# Altium schematic symbol library RelayBoard.SCHLIB: 30 symbols
Pins are listed as number, name and electrical type; pins without a type are passive.

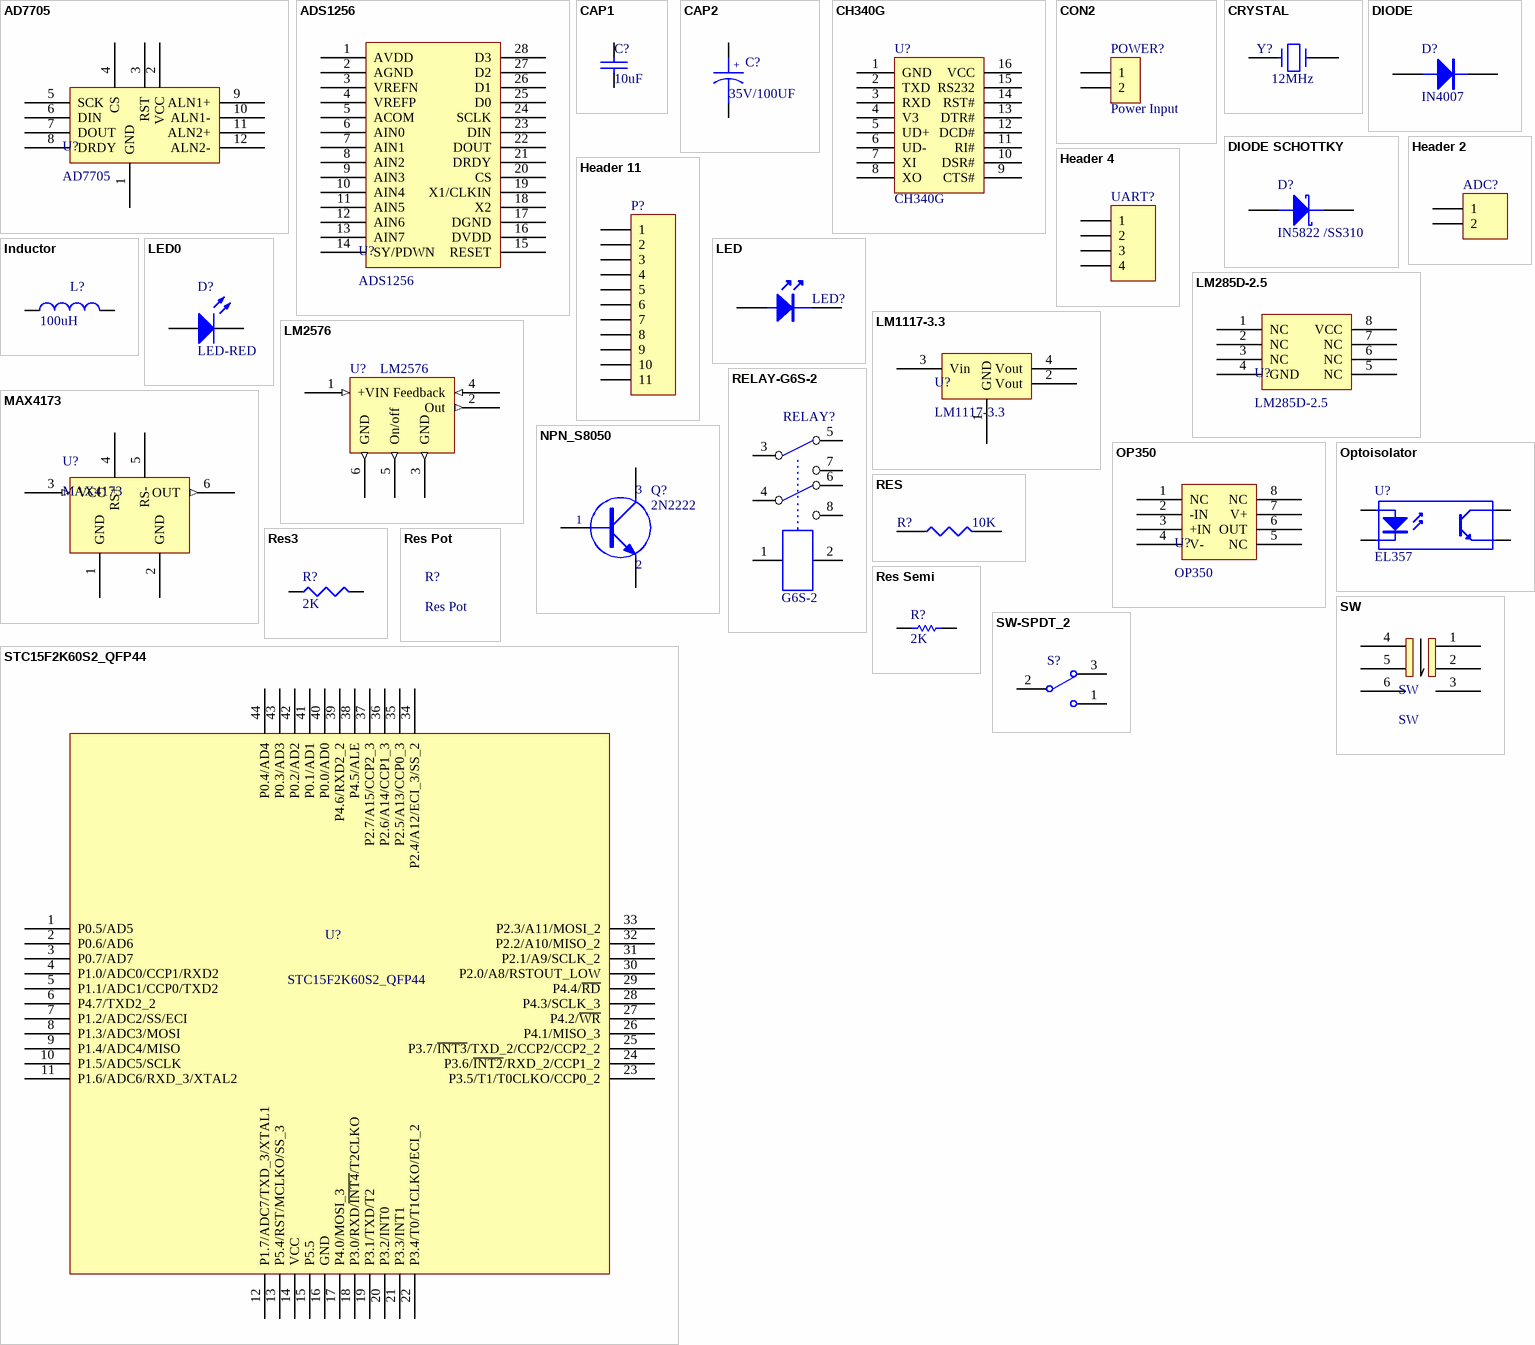
[diagram p0: symbols AD7705 to SW-SPDT_2]

## AD7705
designator U?
pins: 1 GND, 2 VCC, 3 RST, 4 CS, 5 SCK, 6 DIN, 7 DOUT, 8 DRDY, 9 ALN1+, 10 ALN1-, 11 ALN2+, 12 ALN2-

## ADS1256
designator U?
footprint ADS1256 (SSOP-28)
pins: 1 AVDD, 2 AGND, 3 VREFN, 4 VREFP, 5 ACOM, 6 AIN0, 7 AIN1, 8 AIN2, 9 AIN3, 10 AIN4, 11 AIN5, 12 AIN6, 13 AIN7, 14 SY/PDWN, 15 RESET, 16 DVDD, 17 DGND, 18 X2, 19 X1/CLKIN, 20 CS, 21 DRDY, 22 DOUT, 23 DIN, 24 SCLK, 25 D0, 26 D1, 27 D2, 28 D3

## CAP1
designator C?, comment 10uF
footprint C-0805 (SMT)
footprint R0805
footprint 0603
footprint RAD0.2
footprint RAD0.3
footprint RAD0.4
pins: 1, 2

## CAP2
designator C?, comment 35V/100UF
footprint RB (6mm*8mm)
footprint 3216
footprint 3528
footprint 6032
footprint RB.2/.4
footprint RB.3/.6
footprint RB.4/.8
footprint RB.5/1.0
pins: 1, 2
text: +

## CH340G
designator U?
footprint CH340G
pins: 1 GND (power), 2 TXD, 3 RXD, 4 V3, 5 UD+, 6 UD-, 7 XI, 8 XO, 9 CTS#, 10 DSR#, 11 RI#, 12 DCD#, 13 DTR#, 14 RST#, 15 RS232, 16 VCC (power)

## CON2
designator POWER?, comment Power Input
footprint CON2_1 (间距 5.08)
pins: 1, 2

## CRYSTAL
designator Y?, comment 12MHz
Crystal
footprint XTAL1
pins: 1, 2

## DIODE
designator D?, comment IN4007
Diode
footprint DO-214AC (SMA)
pins: 1 A, 2 K

## DIODE SCHOTTKY
designator D?, comment IN5822 /SS310
Schottky Diode
footprint DO-201AD (Diode, Axial; Body 9.5 x 5.6 mm (LxDia. max), Lead Dia. 1.32 mm (max))
footprint DO-214AC (SMA)
footprint DO-214AB (SMC)
pins: 1 A, 2 K

## Header 2
designator ADC?, comment ADC  (value not drawn)
Header, 2-Pin; LatestRevisionDate: 17-Jul-2002; LatestRevisionNote: Re-released for DXP Platform.; Publisher: Altium Limited
footprint CON2_1 (间距 5.08)
signal-integrity model Connector
pins: 1, 2

## Header 4
designator UART?  (value not drawn)
Header, 4-Pin; LatestRevisionDate: 17-Jul-2002; LatestRevisionNote: Re-released for DXP Platform.; Publisher: Altium Limited
footprint CON4_2 (XH2.54)
signal-integrity model Connector
pins: 1, 2, 3, 4

## Header 11
designator P?
Header, 11-Pin; LatestRevisionDate: 17-Jul-2002; LatestRevisionNote: Re-released for DXP Platform.; Publisher: Altium Limited
footprint HDR1X11 (Connector; Header; 11 Position)
signal-integrity model Connector
pins: 1, 2, 3, 4, 5, 6, 7, 8, 9, 10, 11

## Inductor
designator L?, comment 100uH
Inductor; Code_IEC: 1005; Published: 8-Jun-2000; LatestRevisionDate: 17-Jul-2002; LatestRevisionNote: Re-released for DXP Platform.; PackageReference: 0402-A; Publisher: Altium Limited; Code_JEITA: 0402
footprint L-DIP (6*8 0608)
pins: 1, 2

## LED
designator LED?
footprint LED-0805 (SMT LED; 2 Flat Leads)
pins: 1, 2

## LED0
designator D?, comment LED-RED
Typical INFRARED GaAs LED; Published: 8-Jun-2000; LatestRevisionDate: 08-Jul-2005; LatestRevisionNote: Mech Layer 1 removed.; PackageReference: LED-0; Publisher: Altium Limited
footprint led-0805 (SMT LED; 2 Flat Leads)
pins: 1 A, 2 K

## LM285D-2.5
designator U?
pins: 1 NC, 2 NC, 3 NC, 4 GND, 5 NC, 6 NC, 7 NC, 8 VCC

## LM1117-3.3
designator U?
footprint AMS1117 (SOT-223)
pins: 1 GND, 2 Vout, 3 Vin, 4 Vout

## LM2576
designator U?
footprint LM2576
pins: 1 +VIN (in), 2 Out (out) "+VIN", 3 GND (out) "+VIN", 4 Feedback (in) "+VIN", 5 On/off (out) "+VIN", 6 GND (out) "+VIN"

## MAX4173
designator U?
pins: 1 GND, 2 GND, 3 VCC (in), 4 RS+, 5 RS-, 6 OUT (out)

## NPN_S8050
designator Q?, comment 2N2222
NPN Transistor
footprint SOT23A (SOT-23; 3 Leads; Body 3.0 x 2.5 mm, inc. leads (LxW max))
pins: 1 B, 2 E, 3 C

## OP350
designator U?
pins: 1 NC, 2 -IN, 3 +IN, 4 V-, 5 NC, 6 OUT, 7 V+, 8 NC

## Optoisolator
designator U?, comment EL357
4-Pin Phototransistor Optocoupler; Published: 24-Mar-1999; LatestRevisionDate: 04-Mar-2005; LatestRevisionNote: Sch pins 3 & 4 Swapped.; DatasheetDocument: Nov-2003; PackageReference: DIP-4; Publisher: Altium Limited
footprint el357
footprint SSOP4
pins: 1 A "Anode", 2 K "Cathode", 3 E "Emitter", 4 C "Collector"

## RELAY-G6S-2
designator RELAY?, comment G6S-2
footprint G6S-2
pins: 1, 2, 3, 4, 5, 6, 7, 8

## RES
designator R?, comment 10K
footprint R0805
pins: 1, 2

## Res3
designator R?, comment 2K
Resistor; Published: 8-Jun-2000; LatestRevisionDate: 04-Mar-2005; LatestRevisionNote: PCB Footprint replaced.; PackageReference: J1-0603; Publisher: Altium Limited; Value: 2K
footprint R0805
footprint 3225[1210] (Chip Resistor; Body 3.2 x 2.5 mm (LxW typ))
footprint 5025[2010] (Chip Resistor; Body 5.0 x 2.5 mm (LxW typ))
footprint 6332[2512] (Chip Resistor; Body 6.3 x 3.2 mm (LxW typ))
simulation model RESISTOR (Resistor)
signal-integrity model Res
pins: 1, 2

## Res Pot
designator R?

## Res Semi
designator R?, comment 2K
Semiconductor Resistor; Published: 8-Jun-2000; LatestRevisionDate: 17-Jul-2002; LatestRevisionNote: Re-released for DXP Platform.; PackageReference: AXIAL-0.5; Publisher: Altium Limited; Value: 2k
simulation model RES (Semiconductor Resistor)
signal-integrity model Res Semi
footprint R0805
pins: 1, 2

## STC15F2K60S2_QFP44
designator U?
footprint PQFP44
footprint LQFP44
pins: 1 P0.5/AD5, 2 P0.6/AD6, 3 P0.7/AD7, 4 P1.0/ADC0/CCP1/RXD2, 5 P1.1/ADC1/CCP0/TXD2, 6 P4.7/TXD2_2, 7 P1.2/ADC2/SS/ECI, 8 P1.3/ADC3/MOSI, 9 P1.4/ADC4/MISO, 10 P1.5/ADC5/SCLK, 11 P1.6/ADC6/RXD_3/XTAL2, 12 P1.7/ADC7/TXD_3/XTAL1, 13 P5.4/RST/MCLKO/SS_3, 14 VCC, 15 P5.5, 16 GND, 17 P4.0/MOSI_3, 18 P3.0/RXD/~{INT4}/T2CLKO, 19 P3.1/TXD/T2, 20 P3.2/INT0, 21 P3.3/INT1, 22 P3.4/T0/T1CLKO/ECI_2, 23 P3.5/T1/T0CLKO/CCP0_2, 24 P3.6/~{INT2}/RXD_2/CCP1_2, 25 P3.7/~{INT3}/TXD_2/CCP2/CCP2_2, 26 P4.1/MISO_3, 27 P4.2/~{WR}, 28 P4.3/SCLK_3, 29 P4.4/~{RD}, 30 P2.0/A8/RSTOUT_LOW, 31 P2.1/A9/SCLK_2, 32 P2.2/A10/MISO_2, 33 P2.3/A11/MOSI_2, 34 P2.4/A12/ECI_3/SS_2, 35 P2.5/A13/CCP0_3, 36 P2.6/A14/CCP1_3, 37 P2.7/A15/CCP2_3, 38 P4.5/ALE, 39 P4.6/RXD2_2, 40 P0.0/AD0, 41 P0.1/AD1, 42 P0.2/AD2, 43 P0.3/AD3, 44 P0.4/AD4

## SW
designator SW
footprint SW
pins: 1, 2, 3, 4, 5, 6

## SW-SPDT_2
designator S?  (value not drawn)
SPDT Subminiature Toggle Switch, Right Angle Mounting, Vertical Actuation; Published: 24-Mar-1999; LatestRevisionDate: 17-Dec-2003; LatestRevisionNote: Schematic revised, PCB Footprint replaced.; DatasheetDocument: 05-Dec-2000; PackageReference: TL36WW15050; Publisher: Altium Limited; ComponentLink1Description: Manufacturer Link; ComponentLink1URL: http://www.apem.com
footprint SW_1 (摇头开关)
pins: 1, 2, 3